# Altium schematic symbol library kk.SchLib: 5 symbols
Pins are listed as number, name and electrical type; pins without a type are passive.

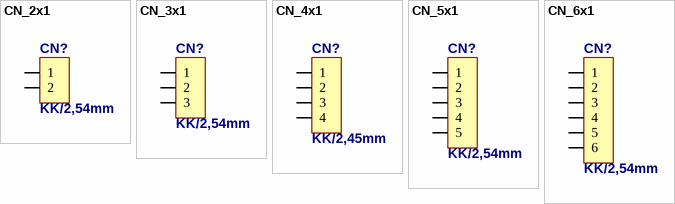
[diagram p0: symbols CN_2x1 to CN_6x1]

## CN_2x1
designator CN?, comment KK/2,54mm
Connector: PCB-cable; KK; socket; male; PIN:2; straight/right-angle; tinned; THT
footprint KK/2.54/2
footprint KK/2.54/2/H
pins: 1, 2

## CN_3x1
designator CN?, comment KK/2,54mm
Connector: PCB-cable; KK; socket; male; PIN:3; straight/right-angle; tinned; THT
footprint KK/2.54/3
footprint KK/2.54/3/H
pins: 1, 2, 3

## CN_4x1
designator CN?, comment KK/2,45mm
Connector: PCB-cable; KK; socket; male; PIN:4; straight/right-angle; tinned; THT
footprint KK/2.54/4
footprint KK/2.54/4/H
pins: 1, 2, 3, 4

## CN_5x1
designator CN?, comment KK/2,54mm
Connector: PCB-cable; KK; socket; male; PIN:5; straight/right-angle; tinned; THT
footprint KK/2.54/5
footprint KK/2.54/5/H
pins: 1, 2, 3, 4, 5

## CN_6x1
designator CN?, comment KK/2,54mm
Connector: PCB-cable; KK; socket; male; PIN:6; straight/right-angle; tinned; THT
footprint KK/2.54/6
footprint KK/2.54/6/H
pins: 1, 2, 3, 4, 5, 6